# Altium schematic symbol library TM4C123GH6PM.SchLib: 1 symbol
Pins are listed as number, name and electrical type; pins without a type are passive.

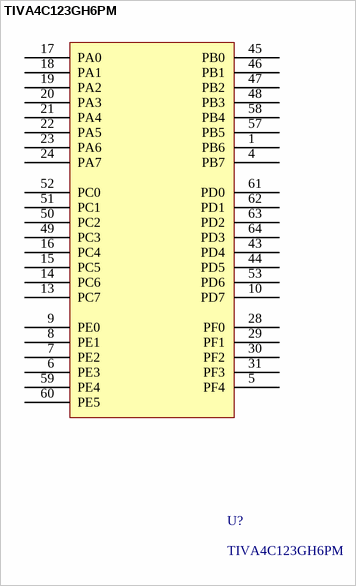
[diagram p0: symbol TIVA4C123GH6PM]

## TIVA4C123GH6PM
designator U?
pins: 1 PB6, 4 PB7, 5 PF4, 6 PE3, 7 PE2, 8 PE1, 9 PE0, 10 PD7, 13 PC7, 14 PC6, 15 PC5, 16 PC4, 17 PA0, 18 PA1, 19 PA2, 20 PA3, 21 PA4, 22 PA5, 23 PA6, 24 PA7, 28 PF0, 29 PF1, 30 PF2, 31 PF3, 43 PD4, 44 PD5, 45 PB0, 46 PB1, 47 PB2, 48 PB3, 49 PC3, 50 PC2, 51 PC1, 52 PC0, 53 PD6, 57 PB5, 58 PB4, 59 PE4, 60 PE5, 61 PD0, 62 PD1, 63 PD2, 64 PD3